# Altium schematic symbol library Molex42820-4224.SchLib: 1 symbol
Pins are listed as number, name and electrical type; pins without a type are passive.

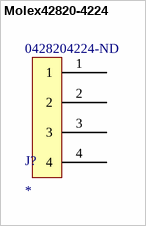
[diagram p0: symbol Molex42820-4224]

## Molex42820-4224
designator J?  Supplier Part Number 1: 0428204224-ND
Supplier 1: Digi-Key; ComponentLink1Description: DataSheet; ComponentLink1URL: https://www.molex.com/pdm_docs/sd/428204224_sd.pdf
footprint Molex42820-4224
pins: 1 (power), 2 (power), 3 (power), 4 (power)